# Altium footprint library 43650-0415.PcbLib: 1 footprints
Each footprint in its own frame and in the unit in brackets; x right, y up, seen from the top. Pads: shape width x height; smd on the part's side, far side on the other; paste and mask are expansions set on the pad; w line width, h text height; cw(c..) or ccw(c..) is an arc to the next point about the centre after c.
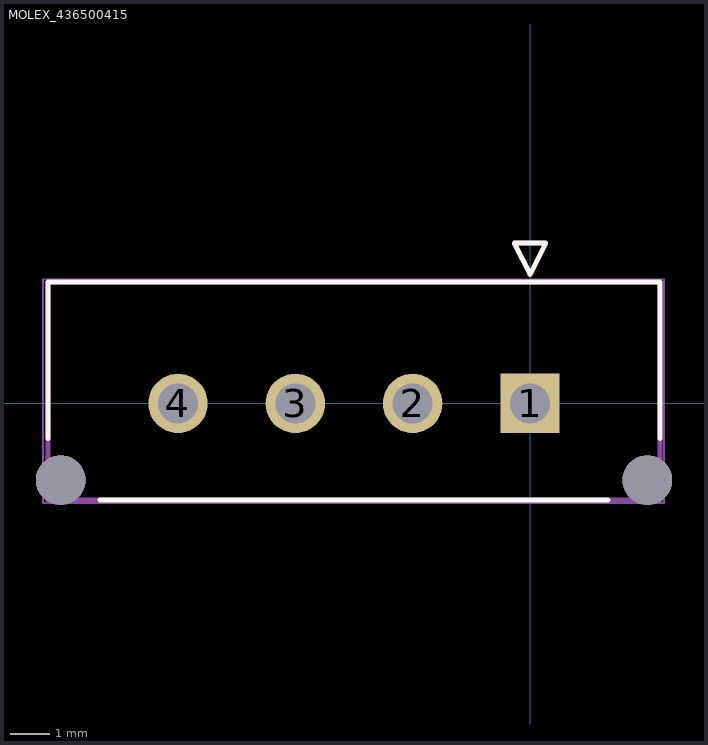
[diagram p0: the footprint, top view; thin cyan lines are the x and y axes]

## MOLEX_436500415 [mm]
pads (6):
  rect 1.52x1.52 hole 1.02 mask+0.076: 1(0,0)
  round 1.52 hole 1.02 mask+0.076: 2(-3,0) 3(-6,0) 4(-9,0)
  round 1.27 hole 1.27 unplated mask+0.076: ""(-12,-1.96) ""(3,-1.96)
Top Overlay:
  lines w0.127: -12.325,-0.9 -12.325,3.1 3.325,3.1 3.325,-0.9 ; -11,-2.47 2,-2.47 ; -0.4,4.1 0.4,4.1 0,3.3 -0.4,4.1
Top Solder:
  circle w0.711: c-12,-1.96 r0.356
Mechanical 13:
  lines w0.127: -12.325,-2.47 3.325,-2.47 3.325,3.1 -12.325,3.1 -12.325,-2.47 ; -0.4,4.1 0.4,4.1 0,3.3 -0.4,4.1
Mechanical 15:
  lines w0.05: -12.446,-2.54 3.429,-2.54 3.429,3.175 -12.446,3.175 -12.446,-2.54
3D body "436450400.stp": height 17.87, standoff 3.87, extent -10.895,-2.638 1.955,4.572
3D body "436500415.stp": height 10.16, standoff -2.92, extent -12.27,-2.415 3.38,3.155